# Altium schematic symbol library BEAD.SchLib: 1 symbol
Pins are listed as number, name and electrical type; pins without a type are passive.

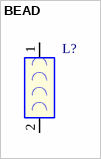
[diagram p0: symbol BEAD]

## BEAD
designator L?
IND FER BEAD 330OHM@100MHZ 1.7A 0603
pins: 1, 2